# EAGLE library part AE-L3GD20 (library IC)
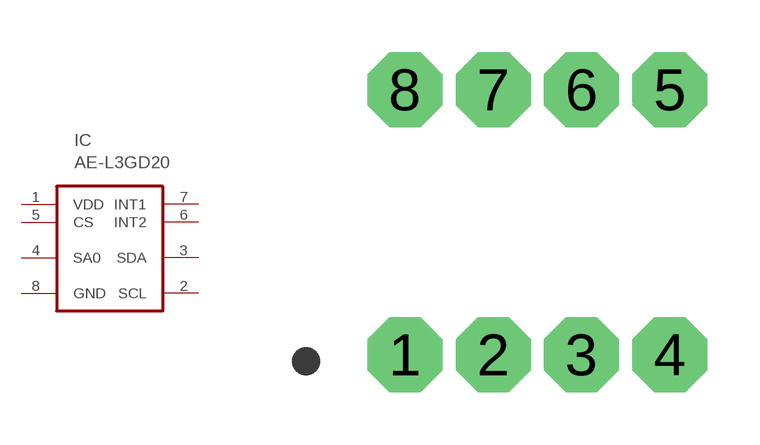
[diagram p4: symbol with the pads of DIP8-2.54; footprint DIP8-2.54]

Designator prefix IC

## AE-L3GD20  [DIP8-2.54]
1  VDD  pwr
2  SCL
3  SDA
4  SA0  in
5  CS  in
6  INT2  out
7  INT1  out
8  GND  pwr

## Footprint DIP8-2.54 (pad centres in mm)
drill 1.016 pad 2.159 octagon: 1 -3.81,-3.81; 2 -1.27,-3.81; 3 1.27,-3.81; 4 3.81,-3.81; 5 3.81,3.81; 6 1.27,3.81; 7 -1.27,3.81; 8 -3.81,3.81